# Altium integrated library Nexperia.IntLib: 3 symbols
Pins are listed as number, name and electrical type; pins without a type are passive.

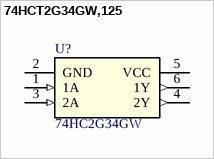
[diagram p0: symbol 74HCT2G34GW,125]

## 74HCT2G34GW,125
designator U?, comment 74HC2G34GW
The 74HC2G34; 74HCT2G34 is a dual buffer. Inputs include clamp diodes. This enables the use of / current limiting resistors to interface inputs to voltages in excess of VCC.; Mfr_Name: Nexperia; Manufacturer_Part_Number: 74HCT2G34GW,125; Revised By: Z_xiao; Copyright: Copyright (C) 2022 Ultra Librarian. All rights reserved.; RefDes: RefDes; Type: DEV; ComponentLink1Description: Datasheet; ComponentLink1URL: https://assets.nexperia.cn/documents/data-sheet/74HC_HCT2G34.pdf
footprint SC-88_SOT363_NEX
footprint SC-88_SOT363_NEX-L
footprint SC-88_SOT363_NEX-M
pins: 1 1A (in), 2 GND, 3 2A (in), 4 2Y (out), 5 VCC (power), 6 1Y (out)


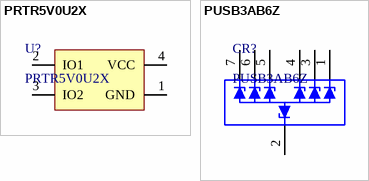
[diagram p1: symbols PRTR5V0U2X to PUSB3AB6Z]

## PRTR5V0U2X
designator U?
超低电容双轨至轨ESD保护二极管; Revised By: Z_xiao; ComponentLink1Description: Datasheet
footprint SOT143B
pins: 1 GND, 2 IO1, 3 IO2, 4 VCC

## PUSB3AB6Z
designator CR?
ESD protection for ultra high-speed interfaces; Mfr_Name: Nexperia; Type: DEV; Revised By: Z_xiao; Copyright: Copyright (C) 2022 Ultra Librarian. All rights reserved.; Manufacturer_Part_Number: PUSB3AB6Z; RefDes: RefDes; ComponentLink1Description: Datasheet; ComponentLink1URL: https://assets.nexperia.cn/documents/data-sheet/PUSB3AB6.pdf
footprint PUSB3AB6Z_NEX
footprint PUSB3AB6Z_NEX-L
footprint PUSB3AB6Z_NEX-M
pins: 1, 2, 3, 4, 5, 6, 7